# EAGLE library part MXI95001 (library canusb)
95501-2881 MOLEX Socket; RJ45; PIN: 8; Cat: 3; lowprofile; setup: 8p8c; THT
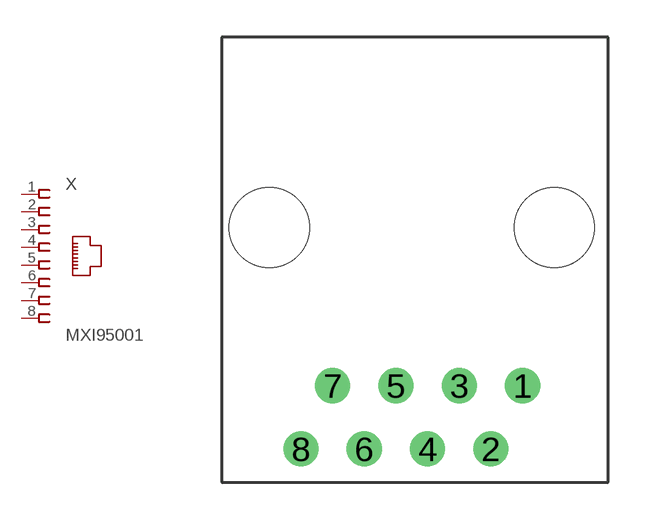
[diagram p4: symbol with the pads of MXI950001; footprint MXI950001]

Designator prefix X

## MXI95001  [MXI950001]
1  1  pas
2  2  pas
3  3  pas
4  4  pas
5  5  pas
6  6  pas
7  7  pas
8  8  pas

## Footprint MXI950001 (pad centres in mm)
drill 0.9: 1 4.445,-6.35; 2 3.175,-8.89; 3 1.905,-6.35; 4 0.635,-8.89; 5 -0.635,-6.35; 6 -1.905,-8.89; 7 -3.175,-6.35; 8 -4.445,-8.89
hole 3.2 at 5.715,0
hole 3.2 at -5.715,0